# EAGLE library part MCP6L04 (library FSAE Electric)
4 crkt 1 MHz, 85 µA Op Amp R-R 1.8V to 6.0V
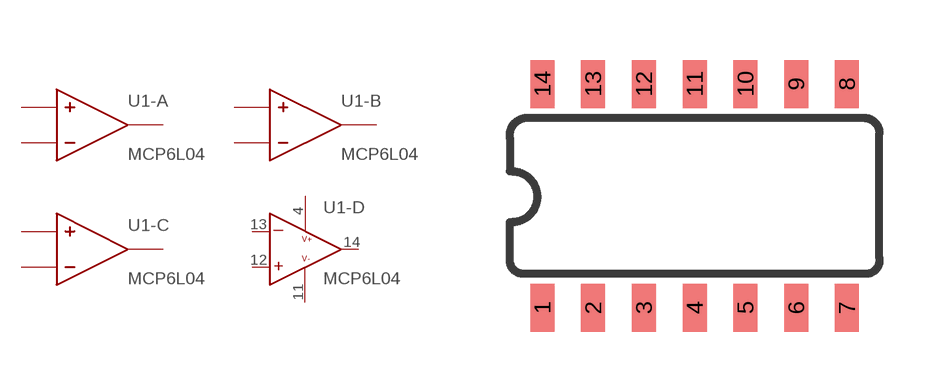
[diagram p86: symbol with the pads of SO-14; footprint SO-14]

Designator prefix U1; gates -A=OPAMP-NOPWR -B=OPAMP-NOPWR -C=OPAMP-NOPWR -D=OPAMP+P

## MCP6L04 (PARTNO: MCP6L04T-E/SL)  [SO-14]
1  -A:VOUT  out
2  -A:-  in
3  -A:+  in
4  -D:V+
5  -B:+  in
6  -B:-  in
7  -B:VOUT  out
8  -C:VOUT  out
9  -C:-  in
10  -C:+  in
11  -D:V-
12  -D:+
13  -D:-
14  -D:O

## Footprint SO-14 (pad centres in mm)
smd 0.6 x 1.2: 1 -3.81,-2.8; 2 -2.54,-2.8; 3 -1.27,-2.8; 4 0,-2.8; 5 1.27,-2.8; 6 2.54,-2.8; 7 3.81,-2.8; 8 3.81,2.8; 9 2.54,2.8; 10 1.27,2.8; 11 0,2.8; 12 -1.27,2.8; 13 -2.54,2.8; 14 -3.81,2.8